# EAGLE library part EE10 (library Eagle CMR)
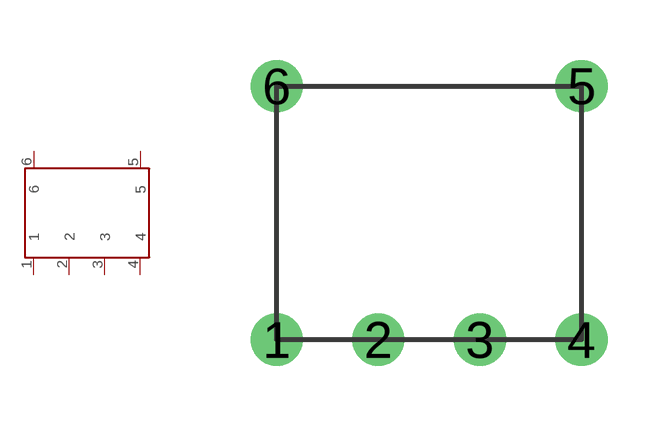
[diagram p29: symbol with the pads of EE10; footprint EE10]

Designator prefix -

## EE10  [EE10]
1  1
2  2
3  3
4  4
5  5
6  6

## Footprint EE10 (pad centres in mm)
drill 0.8: 1 -3.81,-3.81; 2 -1.27,-3.81; 3 1.27,-3.81; 4 3.81,-3.81; 5 3.81,2.54; 6 -3.81,2.54